# Altium footprint library Components - 24.04.20 - 07.48.PcbLib: 1 footprints
Each footprint in its own frame and in the unit in brackets; x right, y up, seen from the top. Pads: shape width x height; smd on the part's side, far side on the other; paste and mask are expansions set on the pad; w line width, h text height; cw(c..) or ccw(c..) is an arc to the next point about the centre after c.
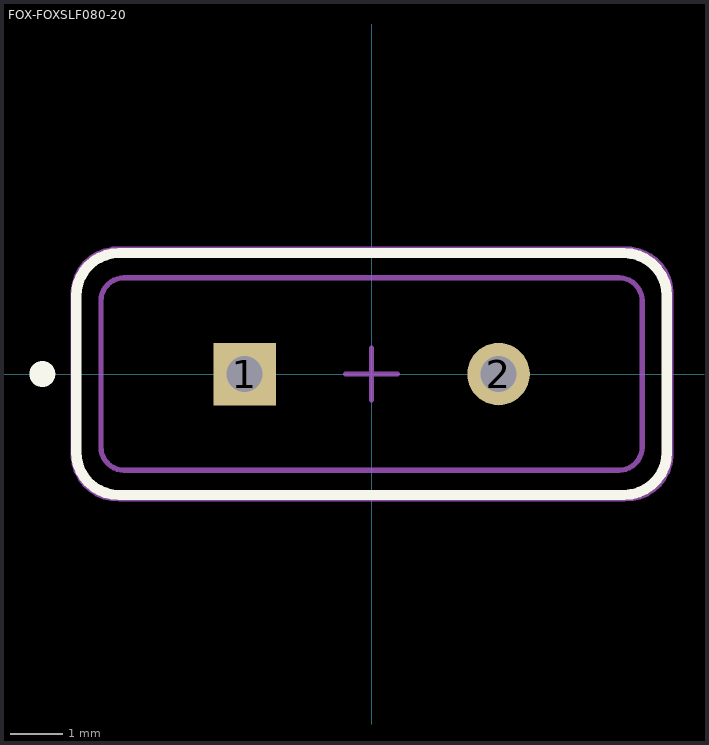
[diagram p0: the footprint, top view; thin cyan lines are the x and y axes]

## FOX-FOXSLF080-20 [mm] "THD, 2-Leads, Body 11.35x4.65mm"
height 3.6
pads (2):
  rect 1.2x1.2 hole 0.7: 1(-2.44,0)
  round 1.2 hole 0.7: 2(2.44,0)
Top Overlay:
  circle w0.25: c-6.325,0 r0.125
  lines w0.2: -5.675,-1.5 ccw(c-4.85,-1.5) -4.85,-2.325 4.85,-2.325 ccw(c4.85,-1.5) 5.675,-1.5 5.675,1.5 ccw(c4.85,1.5) 4.85,2.325 -4.85,2.325 ccw(c-4.85,1.5) -5.675,1.5 -5.675,-1.5 ; -5.675,-1.5 -5.675,-1.5
Mechanical 13:
  lines w0.1: -5.675,-1.5 ccw(c-4.85,-1.5) -4.85,-2.325 4.85,-2.325 ccw(c4.85,-1.5) 5.675,-1.5 5.675,1.5 ccw(c4.85,1.5) 4.85,2.325 -4.85,2.325 ccw(c-4.85,1.5) -5.675,1.5 -5.675,-1.5 ; -5.675,-1.5 -5.675,-1.5 ; -5.2,-1.4 ccw(c-4.75,-1.4) -4.75,-1.85 4.75,-1.85 ccw(c4.75,-1.4) 5.2,-1.4 5.2,1.4 ccw(c4.75,1.4) 4.75,1.85 -4.75,1.85 ccw(c-4.75,1.4) -5.2,1.4 -5.2,-1.4
Mechanical 15:
  lines w0.05: -4.85,2.425 4.85,2.425 cw(c4.9,1.55) 5.775,1.6 5.775,-1.599 cw(c4.9,-1.549) 4.869,-2.425 ; -4.831,2.425 ccw(c-4.881,1.55) -5.756,1.6 -5.756,-1.599 ccw(c-4.881,-1.549) -4.85,-2.425 4.85,-2.425
  lines w0.1: -0.5,0 0.5,0 ; 0,-0.5 0,0.5
3D body: height 1, standoff 0, extent -5.675,-2.325 5.675,2.325
3D body: height 3.6, standoff 0, extent -5.199,-1.849 5.2,1.85